# Altium schematic symbol library SCH - POWER - SWITCHMODE - TI TPS81256SIP.SchLib: 1 symbol
Pins are listed as number, name and electrical type; pins without a type are passive.

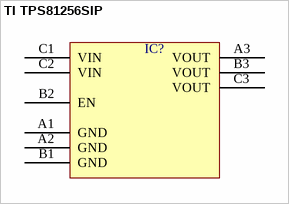
[diagram p0: symbol TI TPS81256SIP]

## TI TPS81256SIP
designator IC?  (value not drawn)
pins: A1 GND, A2 GND, A3 VOUT, B1 GND, B2 EN, B3 VOUT, C1 VIN, C2 VIN, C3 VOUT